# EAGLE library part USB.MICRO (library LinnesLab-Connectors)
DigiKey PN: 609-4613-1-ND
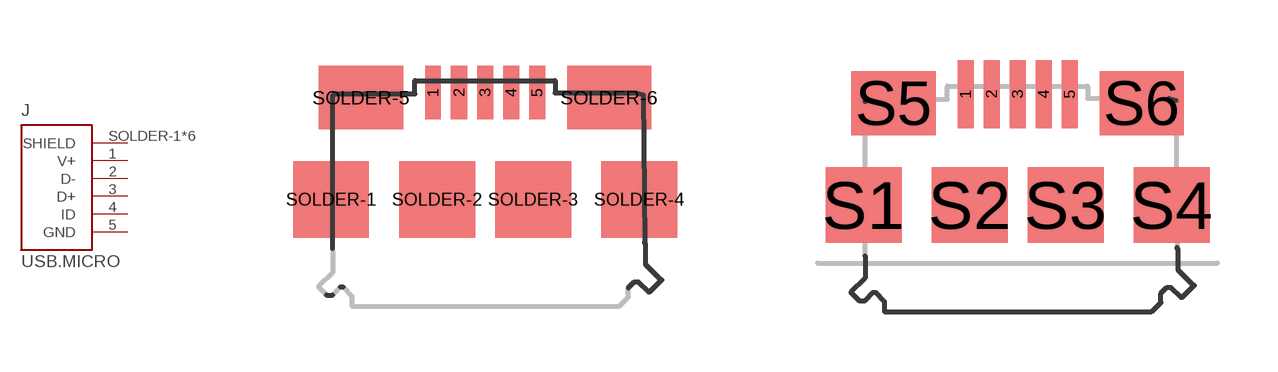
[diagram p8: symbol with the pads of USB-MICRO-01; footprints USB-MICRO-01, USB-MICRO-01.BIGGERPADS]

Designator prefix J

## USB.MICRO-STD  [USB-MICRO-01]
1  V+
2  D-
3  D+
4  ID
5  GND
SOLDER-1  SHIELD
SOLDER-2  SHIELD
SOLDER-3  SHIELD
SOLDER-4  SHIELD
SOLDER-5  SHIELD
SOLDER-6  SHIELD

## USB.MICRO-BIGGERPADS  [USB-MICRO-01.BIGGERPADS]
1  V+
2  D-
3  D+
4  ID
5  GND
S1  SHIELD
S2  SHIELD
S3  SHIELD
S4  SHIELD
S5  SHIELD
S6  SHIELD

## Footprint USB-MICRO-01 (pad centres in mm)
smd 0.4 x 1.35: 1 -1.3,2.675; 2 -0.65,2.675; 3 0,2.675; 4 0.65,2.675; 5 1.3,2.675
smd 1.9 x 1.9: SOLDER-1 -3.85,0; SOLDER-2 -1.2,0; SOLDER-3 1.2,0; SOLDER-4 3.85,0
smd 2.1 x 1.6: SOLDER-5 -3.1,2.55; SOLDER-6 3.1,2.55

## Footprint USB-MICRO-01.BIGGERPADS (pad centres in mm)
smd 0.4 x 1.7: 1 -1.3,1.505; 2 -0.65,1.505; 3 0,1.505; 4 0.65,1.505; 5 1.3,1.505
smd 1.9 x 1.9: S1 -3.85,-1.27; S2 -1.2,-1.27; S3 1.2,-1.27; S4 3.85,-1.27
smd 2.1 x 1.6: S5 -3.1,1.28; S6 3.1,1.28